# Altium schematic symbol library osci.SchLib: 3 symbols
Pins are listed as number, name and electrical type; pins without a type are passive.

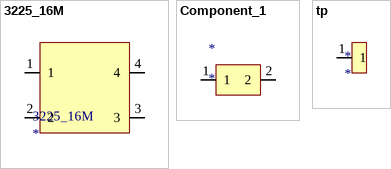
[diagram p0: symbols 3225_16M to tp]

## 3225_16M
designator 3225_16M
pins: 1, 2, 3, 4

## Component_1
designator *
pins: 1, 2

## tp
designator *
pins: 1